# EAGLE library part ATF150X44 (library atmel-cpld)
ATF150x in 44 pin packages
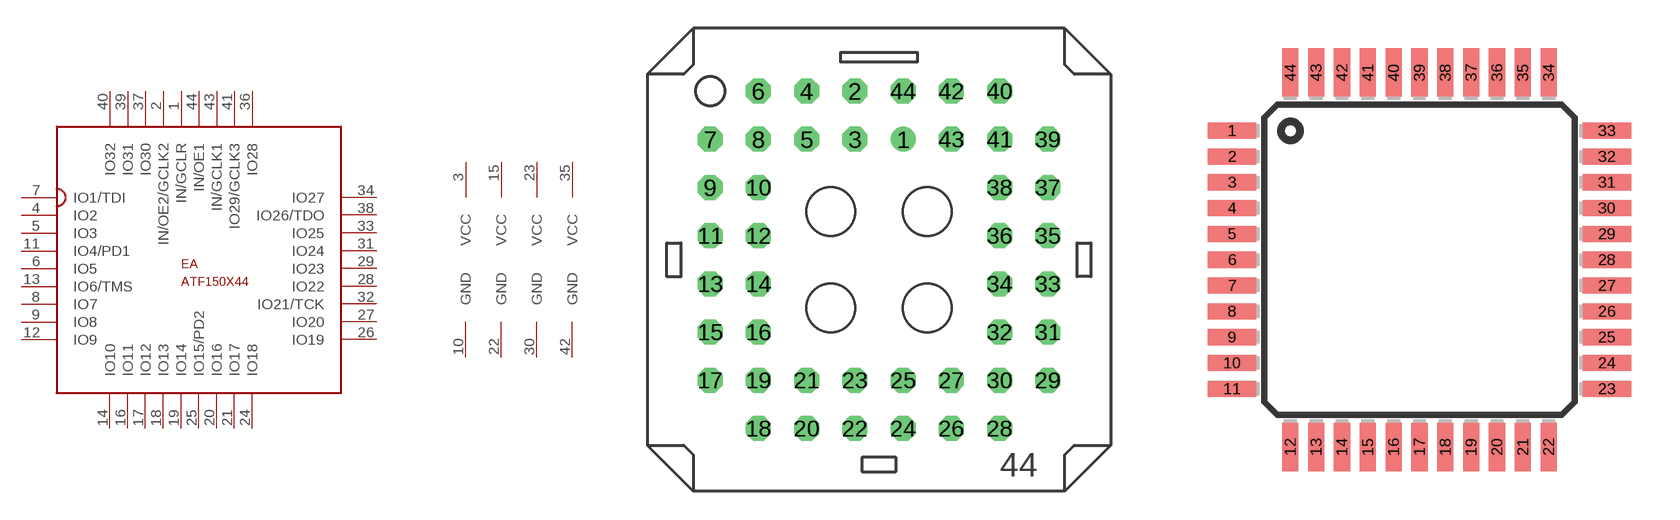
[diagram p3: symbol with the pads of 3M44; footprints 3M44, TQFP44]

Designator prefix E; gates A=AT1504-44 G$5=PGND G$6=PGND G$7=PGND G$8=PGND G$1=PVCC G$2=PVCC G$3=PVCC G$4=PVCC

## ATF150X44  [3M44]
1  A:IN/GCLR  in
2  A:IN/OE2/GCLK2  in
3  G$1:VCC  pwr
4  A:IO2
5  A:IO3
6  A:IO5
7  A:IO1/TDI
8  A:IO7
9  A:IO8
10  G$5:GND  pwr
11  A:IO4/PD1
12  A:IO9
13  A:IO6/TMS
14  A:IO10
15  G$2:VCC  pwr
16  A:IO11
17  A:IO12
18  A:IO13
19  A:IO14
20  A:IO16
21  A:IO17
22  G$6:GND  pwr
23  G$3:VCC  pwr
24  A:IO18
25  A:IO15/PD2
26  A:IO19
27  A:IO20
28  A:IO22
29  A:IO23
30  G$7:GND  pwr
31  A:IO24
32  A:IO21/TCK
33  A:IO25
34  A:IO27
35  G$4:VCC  pwr
36  A:IO28
37  A:IO30
38  A:IO26/TDO
39  A:IO31
40  A:IO32
41  A:IO29/GCLK3
42  G$8:GND  pwr
43  A:IN/GCLK1  in
44  A:IN/OE1  in

## ATF150X44TQFP  [TQFP44]
1  A:IO1/TDI
2  A:IO2
3  A:IO3
4  G$5:GND  pwr
5  A:IO4/PD1
6  A:IO5
7  A:IO6/TMS
8  A:IO7
9  G$1:VCC  pwr
10  A:IO8
11  A:IO9
12  A:IO10
13  A:IO11
14  A:IO12
15  A:IO13
16  G$6:GND  pwr
17  G$2:VCC  pwr
18  A:IO14
19  A:IO15/PD2
20  A:IO16
21  A:IO17
22  A:IO18
23  A:IO19
24  G$7:GND  pwr
25  A:IO20
26  A:IO21/TCK
27  A:IO22
28  A:IO23
29  G$3:VCC  pwr
30  A:IO24
31  A:IO25
32  A:IO26/TDO
33  A:IO27
34  A:IO28
35  A:IO29/GCLK3
36  G$8:GND  pwr
37  A:IN/GCLK1  in
38  A:IN/OE1  in
39  A:IN/GCLR  in
40  A:IN/OE2/GCLK2  in
41  G$4:VCC  pwr
42  A:IO30
43  A:IO31
44  A:IO32

## Footprint 3M44 (pad centres in mm)
PLCC SOCKET
drill 0.813: 1 1.27,6.35
drill 0.813 octagon: 2 -1.27,8.89; 3 -1.27,6.35; 4 -3.81,8.89; 5 -3.81,6.35; 6 -6.35,8.89; 7 -8.89,6.35; 8 -6.35,6.35; 9 -8.89,3.81; 10 -6.35,3.81; 11 -8.89,1.27; 12 -6.35,1.27; 13 -8.89,-1.27; 14 -6.35,-1.27; 15 -8.89,-3.81; 16 -6.35,-3.81; 17 -8.89,-6.35; 18 -6.35,-8.89; 19 -6.35,-6.35; 20 -3.81,-8.89; 21 -3.81,-6.35; 22 -1.27,-8.89; 23 -1.27,-6.35; 24 1.27,-8.89; 25 1.27,-6.35; 26 3.81,-8.89; 27 3.81,-6.35; 28 6.35,-8.89; 29 8.89,-6.35; 30 6.35,-6.35; 31 8.89,-3.81; 32 6.35,-3.81; 33 8.89,-1.27; 34 6.35,-1.27; 35 8.89,1.27; 36 6.35,1.27; 37 8.89,3.81; 38 6.35,3.81; 39 8.89,6.35; 40 6.35,8.89; 41 6.35,6.35; 42 3.81,8.89; 43 3.81,6.35; 44 1.27,8.89

## Footprint TQFP44 (pad centres in mm)
44-lead Thin Quad Flat Package
smd 1.5 x 0.5: 1 -5.8,4; 2 -5.8,3.2; 3 -5.8,2.4; 4 -5.8,1.6; 5 -5.8,0.8; 6 -5.8,0; 7 -5.8,-0.8; 8 -5.8,-1.6; 9 -5.8,-2.4; 10 -5.8,-3.2; 11 -5.8,-4; 23 5.8,-4; 24 5.8,-3.2; 25 5.8,-2.4; 26 5.8,-1.6; 27 5.8,-0.8; 28 5.8,0; 29 5.8,0.8; 30 5.8,1.6; 31 5.8,2.4; 32 5.8,3.2; 33 5.8,4
smd 0.5 x 1.5: 12 -4,-5.8; 13 -3.2,-5.8; 14 -2.4,-5.8; 15 -1.6,-5.8; 16 -0.8,-5.8; 17 0,-5.8; 18 0.8,-5.8; 19 1.6,-5.8; 20 2.4,-5.8; 21 3.2,-5.8; 22 4,-5.8; 34 4,5.8; 35 3.2,5.8; 36 2.4,5.8; 37 1.6,5.8; 38 0.8,5.8; 39 0,5.8; 40 -0.8,5.8; 41 -1.6,5.8; 42 -2.4,5.8; 43 -3.2,5.8; 44 -4,5.8